# EAGLE library part 105313-1306 (library 105313-1306)
Connector Header Through Hole, Right Angle 6 position 0.098" (2.50mm) Source: Datasheet <https://tools.molex.com/pdm_docs/sd/1053131306_sd.pdf>
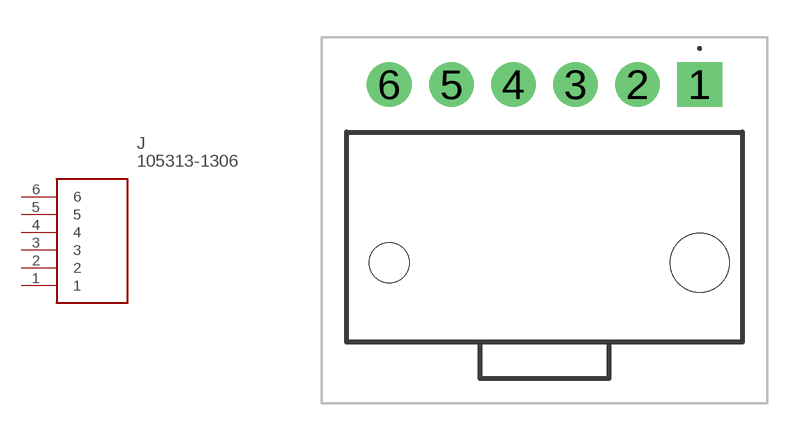
[diagram p0: symbol with the pads of 1053131306; footprint 1053131306]

Designator prefix J

## 105313-1306 (Description: Connector Header Through Hole, Right Angle 6 position 0.098" (2.50mm); Height: 6.84mm; Manufacturer_Name: Molex; Manufacturer_Part_Number: 105313-1306; Mouser_Part_Number: 538-105313-1306; Mouser_Price-Stock: https://www.mouser.co.uk/ProductDetail/Molex/105313-1306?qs=PqFvFmEiOr50lWn2UaMD6w%3D%3D)  [1053131306]
1  1
2  2
3  3
4  4
5  5
6  6

## Footprint 1053131306 (pad centres in mm)
105313-1306-2
drill 1.2 pad 1.8 square: 1 0,0
drill 1.2 pad 1.8: 2 -2.5,0; 3 -5,0; 4 -7.5,0; 5 -10,0; 6 -12.5,0
hole 2.37 at 0,-7.18
hole 1.6 at -12.5,-7.18